# EAGLE library part MCP3421A0T-E_CH (library Deegou_IC)
A/D Converter 18-Bit 2.048V I2C SOT23-6 Source: Datasheet <http://ww1.microchip.com/downloads/en/DeviceDoc/22003e.pdf>
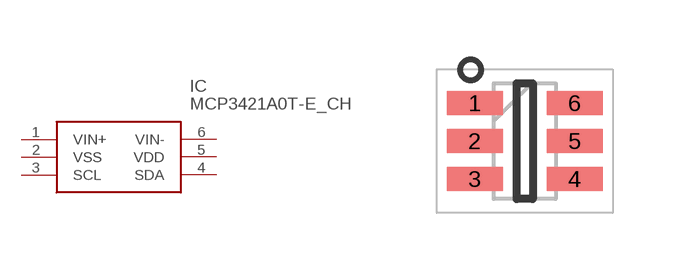
[diagram p71: symbol with the pads of SOT95P270X145-6N; footprint SOT95P270X145-6N]

Designator prefix IC

## MCP3421A0T-E_CH (ALLIED_NUMBER: 70414366; ALLIED_PRICE/STOCK: http://www.alliedelec.com/microchip-technology-inc-mcp3421a0t-e-ch/70414366/; ARROW_PART_NUMBER: MCP3421A0T-E/CH; ARROW_PRICE/STOCK: https://www.arrow.com/en/products/mcp3421a0t-ech/microchip-technology; DESCRIPTION: A/D Converter 18-Bit 2.048V I2C SOT23-6; HEIGHT: 1.45mm; MANUFACTURER_NAME: Microchip; MANUFACTURER_PART_NUMBER: MCP3421A0T-E/CH; RS_PART_NUMBER: 8895118; RS_PRICE/STOCK: http://uk.rs-online.com/web/p/products/8895118)  [SOT95P270X145-6N]
1  VIN+  in
2  VSS  pwr
3  SCL
4  SDA
5  VDD  pwr
6  VIN-  in

## Footprint SOT95P270X145-6N (pad centres in mm)
6-Lead (OT) SOT-23
smd 1.4 x 0.6: 1 -1.25,0.95; 2 -1.25,0; 3 -1.25,-0.95; 4 1.25,-0.95; 5 1.25,0; 6 1.25,0.95